# Altium footprint library 918143110.PcbLib: 1 footprints
Each footprint in its own frame and in the unit in brackets; x right, y up, seen from the top. Pads: shape width x height; smd on the part's side, far side on the other; paste and mask are expansions set on the pad; w line width, h text height; cw(c..) or ccw(c..) is an arc to the next point about the centre after c.
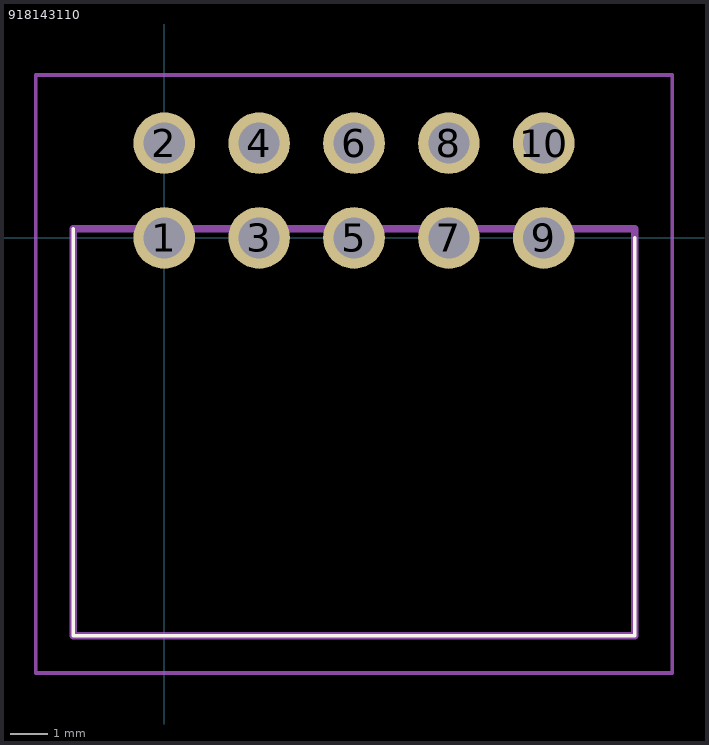
[diagram p0: the footprint, top view; thin cyan lines are the x and y axes]

## 918143110 [mm]
pads (10):
  round 1.65 hole 1.1: 1(0,0) 2(0,2.54) 3(2.54,0) 4(2.54,2.54) 5(5.08,0) 6(5.08,2.54) 7(7.62,0) 8(7.62,2.54) 9(10.16,0) 10(10.16,2.54)
Top Overlay:
  lines w0.1: -2.44,0.25 -2.44,-10.65 12.6,-10.65 12.6,0
Mechanical 15:
  lines w0.2: -2.44,-10.65 12.6,-10.65 12.6,0.25 -2.44,0.25 -2.44,-10.65
Mechanical 20:
  lines w0.1: -3.44,-11.65 13.6,-11.65 13.6,4.365 -3.44,4.365 -3.44,-11.65
3D body "91814-3110.stp": height 9.8, standoff -2.05, extent -2.44,-10.657 12.6,2.857